# Altium integrated library Integrated_Library1.IntLib: 8 symbols
Pins are listed as number, name and electrical type; pins without a type are passive.

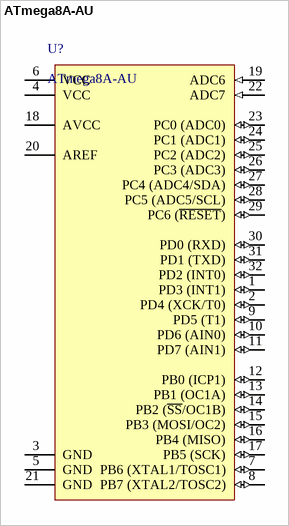
[diagram p0: symbol ATmega8A-AU]

## ATmega8A-AU
designator U?
footprint ATmega8A-AU 32A
pins: 1 PD3 (INT1) (io), 2 PD4 (XCK/T0) (io), 3 GND (power), 4 VCC (power), 5 GND (power), 6 VCC (power), 7 PB6 (XTAL1/TOSC1) (io), 8 PB7 (XTAL2/TOSC2) (io), 9 PD5 (T1) (io), 10 PD6 (AIN0) (io), 11 PD7 (AIN1) (io), 12 PB0 (ICP1) (io), 13 PB1 (OC1A) (io), 14 PB2 (~{SS}/OC1B) (io), 15 PB3 (MOSI/OC2) (io), 16 PB4 (MISO) (io), 17 PB5 (SCK) (io), 18 AVCC (power), 19 ADC6 (in), 20 AREF (power), 21 GND (power), 22 ADC7 (in), 23 PC0 (ADC0) (io), 24 PC1 (ADC1) (io), 25 PC2 (ADC2) (io), 26 PC3 (ADC3) (io), 27 PC4 (ADC4/SDA) (io), 28 PC5 (ADC5/SCL) (io), 29 PC6 (~{RESET}) (io), 30 PD0 (RXD) (io), 31 PD1 (TXD) (io), 32 PD2 (INT0) (io)


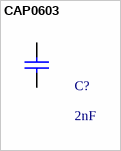
[diagram p1: symbol CAP0603]

## CAP0603
designator C?, comment 2nF
CAP0603
footprint CAP0603
pins: 1, 2


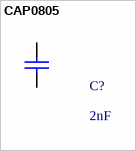
[diagram p2: symbol CAP0805]

## CAP0805
designator C?, comment 2nF
CAP0805
footprint CAP0805
pins: 1, 2


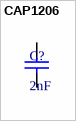
[diagram p3: symbol CAP1206]

## CAP1206
designator C?, comment 2nF
CAP1206
footprint CAP1206
pins: 1, 2


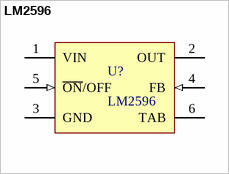
[diagram p4: symbol LM2596]

## LM2596
designator U?
footprint LM2596 3V SMD
footprint LM2596 5V SMD
footprint LM2596 12V SMD
pins: 1 VIN (power), 2 OUT (power), 3 GND (power), 4 FB (in), 5 ~{ON}/OFF (in), 6 TAB (power)


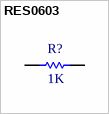
[diagram p5: symbol RES0603]

## RES0603
designator R?, comment 1K
RES0603
footprint RES0603
pins: 1, 2


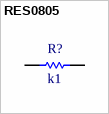
[diagram p6: symbol RES0805]

## RES0805
designator R?, comment k1
RES0805
footprint RES0805
pins: 1, 2


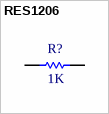
[diagram p7: symbol RES1206]

## RES1206
designator R?, comment 1K
RES1206
footprint RES1206
pins: 1, 2